# Altium schematic symbol library MC100E016FNG.SchLib: 1 symbol
Pins are listed as number, name and electrical type; pins without a type are passive.

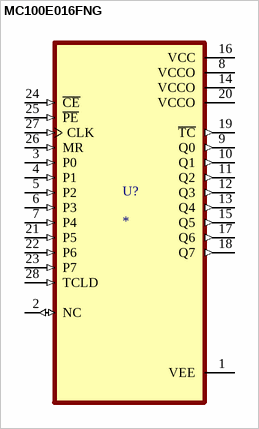
[diagram p0: symbol MC100E016FNG]

## MC100E016FNG
designator U?
MP: MC100E016FNG; Package: None; Price: None; Value: *; Availability: Unavailable
footprint PLCC127P1245X1245X457-28N
pins: 1 VEE (power), 2 NC (io), 3 P0 (in), 4 P1 (in), 5 P2 (in), 6 P3 (in), 7 P4 (in), 8 VCCO (power), 9 Q0 (out), 10 Q1 (out), 11 Q2 (out), 12 Q3 (out), 13 Q4 (out), 14 VCCO (power), 15 Q5 (out), 16 VCC (power), 17 Q6 (out), 18 Q7 (out), 19 ~{TC} (out), 20 VCCO (power), 21 P5 (in), 22 P6 (in), 23 P7 (in), 24 ~{CE} (in), 25 ~{PE} (in), 26 MR (in), 27 CLK (in), 28 TCLD (in)